# Altium footprint library MSP430PCB.PcbLib: 42 footprints (part 3 of 3)
Each footprint in its own frame and in the unit in brackets; x right, y up, seen from the top. Pads: shape width x height; smd on the part's side, far side on the other; paste and mask are expansions set on the pad; w line width, h text height; cw(c..) or ccw(c..) is an arc to the next point about the centre after c.
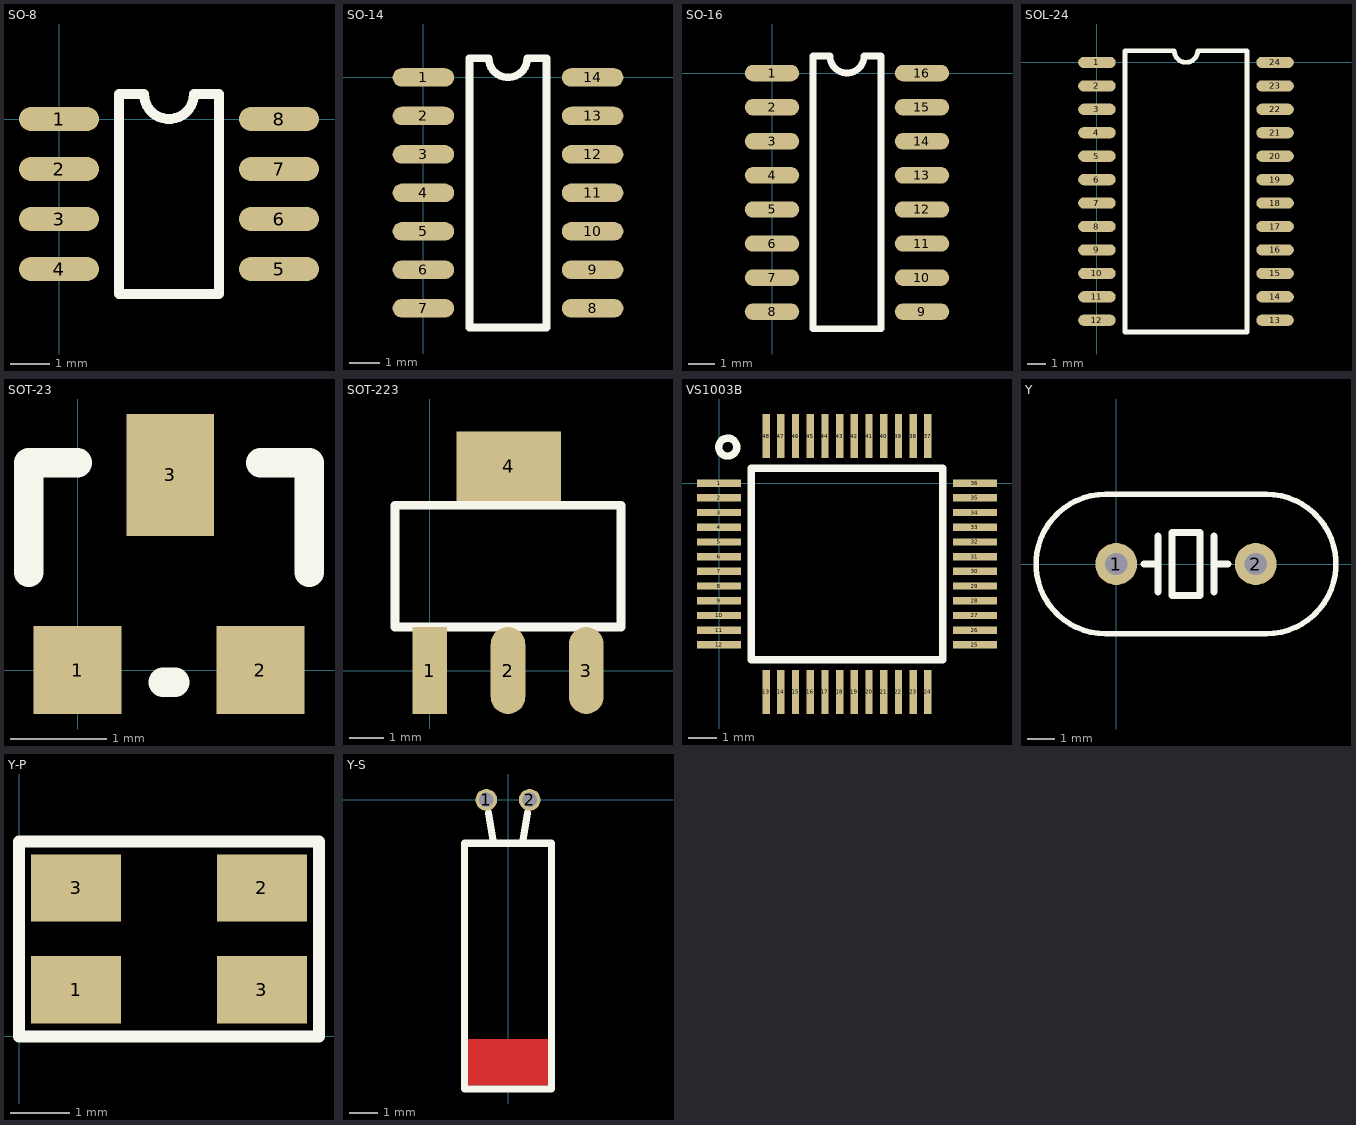
[diagram p2: the footprints below, top view; thin cyan lines are the x and y axes]

## SO-8 [mil]
pads (8):
  oval 80x24 smd: 1(0,0) 2(0,-50) 3(0,-100) 4(0,-150) 5(220,-150) 6(220,-100) 7(220,-50) 8(220,0)
Top Overlay:
  lines w10: 60,-175 160,-175 160,25 135,25 cw(c110,25) 85,25 60,25 60,-175

## SO-14 [mil]
pads (14):
  oval 80x24 smd: 1(0,0) 2(0,-50) 3(0,-100) 4(0,-150) 5(0,-200) 6(0,-250) 7(0,-300) 8(220,-300) 9(220,-250) 10(220,-200) 11(220,-150) 12(220,-100) 13(220,-50) 14(220,0)
Top Overlay:
  lines w10: 60,-325 160,-325 160,25 135,25 cw(c110,25) 85,25 60,25 60,-325

## SO-16 [mil]
pads (16):
  oval 80x24 smd: 1(0,0) 2(0,-50) 3(0,-100) 4(0,-150) 5(0,-200) 6(0,-250) 7(0,-300) 8(0,-350) 9(220,-350) 10(220,-300) 11(220,-250) 12(220,-200) 13(220,-150) 14(220,-100) 15(220,-50) 16(220,0)
Top Overlay:
  lines w10: 60,-375 160,-375 160,25 135,25 cw(c110,25) 85,25 60,25 60,-375

## SOL-24 [mil]
pads (24):
  oval 80x24 smd: 1(0,0) 2(0,-50) 3(0,-100) 4(0,-150) 5(0,-200) 6(0,-250) 7(0,-300) 8(0,-350) 9(0,-400) 10(0,-450) 11(0,-500) 12(0,-550) 13(380,-550) 14(380,-500) 15(380,-450) 16(380,-400) 17(380,-350) 18(380,-300) 19(380,-250) 20(380,-200) 21(380,-150) 22(380,-100) 23(380,-50) 24(380,0)
Top Overlay:
  lines w10: 60,-575 60,25 165,25 ccw(c190,25) 215,25 320,25 320,-575 60,-575

## SOT-23 [mil]
pads (3):
  rect 36x36 smd: 1(0,0) 2(75,0)
  rect 36x50 smd: 3(38,80)
Top Overlay:
  lines w12: -20,40 -20,85 0,85 ; 35,-5 40,-5 ; 75,85 95,85 95,40

## SOT-223 [mil]
pads (4):
  rect 40x100 smd: 1(0,0)
  oval 40x100 smd: 2(90,0) 3(180,0)
  rect 120x80 smd: 4(91,235)
Top Overlay:
  lines w10: -40,50 -40,190 220,190 220,50 -40,50

## VS1003B [mil]
pads (48):
  rect 60x10 smd: 1(0,0) 2(0,-20) 3(0,-40) 4(0,-60) 5(0,-80) 6(0,-100) 7(0,-120) 8(0,-140) 9(0,-160) 10(0,-180) 11(0,-200) 12(0,-220) 25(348,-220) 26(348,-200) 27(348,-180) 28(348,-160) 29(348,-140) 30(348,-120) 31(348,-100) 32(348,-80) 33(348,-60) 34(348,-40) 35(348,-20) 36(348,0)
  rect 10x60 smd: 13(64,-284) 14(84,-284) 15(104,-284) 16(124,-284) 17(144,-284) 18(164,-284) 19(184,-284) 20(204,-284) 21(224,-284) 22(244,-284) 23(264,-284) 24(284,-284) 37(284,64) 38(264,64) 39(244,64) 40(224,64) 41(204,64) 42(184,64) 43(164,64) 44(144,64) 45(124,64) 46(104,64) 47(84,64) 48(64,64)
Top Overlay:
  circle w10: c11.79,49 r12.21
  lines w10: 44,-240 44,20 304,20 304,-240 44,-240

## Y [mil]
pads (2):
  round 60 hole 32: 1(0,0) 2(200,0)
Top Overlay:
  lines w8: -15,-100 cw(c-15,0) -15,100 215,100 cw(c215,0) 215,-100 -15,-100
  lines w10: 40,0 60,0 ; 60,-40 60,40 ; 140,-40 140,40 ; 140,0 160,0 ; 80,-45 80,45 120,45 120,-45 80,-45

## Y-P [mil]
pads (4):
  rect 60x45 smd: 1(38,31) 2(162,99) 3(38,99) 3(162,31)
Top Overlay:
  lines w8: 0,0 0,130 200,130 200,0 0,0

## Y-S [mil]
pads (2):
  round 30 hole 20: 1(-30,0) 2(30,0)
Top Layer:
  rectangle: -55,-395 55,-331
Top Overlay:
  lines w10: -27,-18 -20,-60 ; 20,-60 27,-18 ; -60,-400 -60,-60 60,-60 60,-400 -60,-400
Top Solder:
  rectangle: -55,-395 55,-331